# Altium integrated library IRF540NSTRLPBF.IntLib: 1 symbol
Pins are listed as number, name and electrical type; pins without a type are passive.

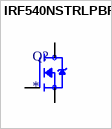
[diagram p0: symbol IRF540NSTRLPBF]

## IRF540NSTRLPBF
designator Q?
MOSFET, Power; N-Ch; VDSS 100V; RDS(ON) 44Milliohms; ID 33A; D2Pak; PD 130W; VGS +/-20; MF: Infineon Technologies; MP: IRF540NSTRLPBF; Check_prices: https://www.snapeda.com/parts/IRF540NSTRLPBF/Infineon+Technologies/view-part/?ref=eda; Availability: In Stock; Value: *; Price: None; Package: D2PAK Infineon / IR; Purchase-URL: https://pricing.snapeda.com/search/part/IRF540NSTRLPBF/?ref=eda; SnapEDA_Link: https://www.snapeda.com/parts/IRF540NSTRLPBF/Infineon+Technologies/view-part/?ref=snap
footprint TRANS_IRF540NSTRLPBF
pins: 1 G, 2 D, 3 S